# EAGLE library part PJRAS4X2U01AUX (library Connectors)
PJRAS4X2U01AUX - 4 horizontal by 2 vertical PCB mount RCA jack Digikey: SC2539-ND Mouser: 502-PJRAS4X2U01AUX
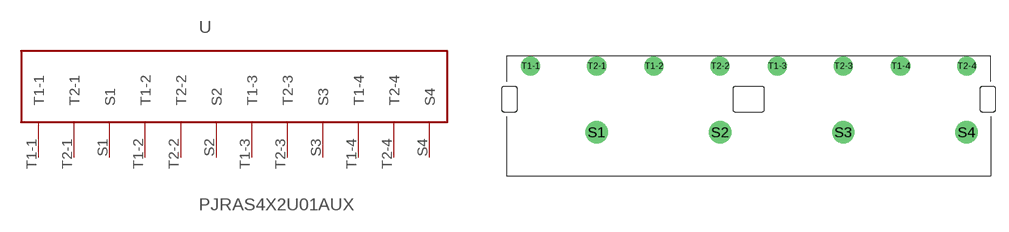
[diagram p0: symbol with the pads of PJRAS4X2U01AUX; footprint PJRAS4X2U01AUX]

Designator prefix -

## PJRAS4X2U01AUX  [PJRAS4X2U01AUX]
S1  S1
S2  S2
S3  S3
S4  S4
T1-1  T1-1
T1-2  T1-2
T1-3  T1-3
T1-4  T1-4
T2-1  T2-1
T2-2  T2-2
T2-3  T2-3
T2-4  T2-4

## Footprint PJRAS4X2U01AUX (pad centres in mm)
drill 1.5 pad 2.54: S1 -17.25,-3.75; S2 -3.25,-3.75; S3 10.75,-3.75; S4 24.75,-3.75
drill 1.3 pad 2.184: T1-1 -24.75,3.75; T1-2 -10.75,3.75; T1-3 3.25,3.75; T1-4 17.25,3.75; T2-1 -17.25,3.75; T2-2 -3.25,3.75; T2-3 10.75,3.75; T2-4 24.75,3.75